# Altium schematic symbol library WR-LECO.SchLib: 17 symbols
Pins are listed as number, name and electrical type; pins without a type are passive.

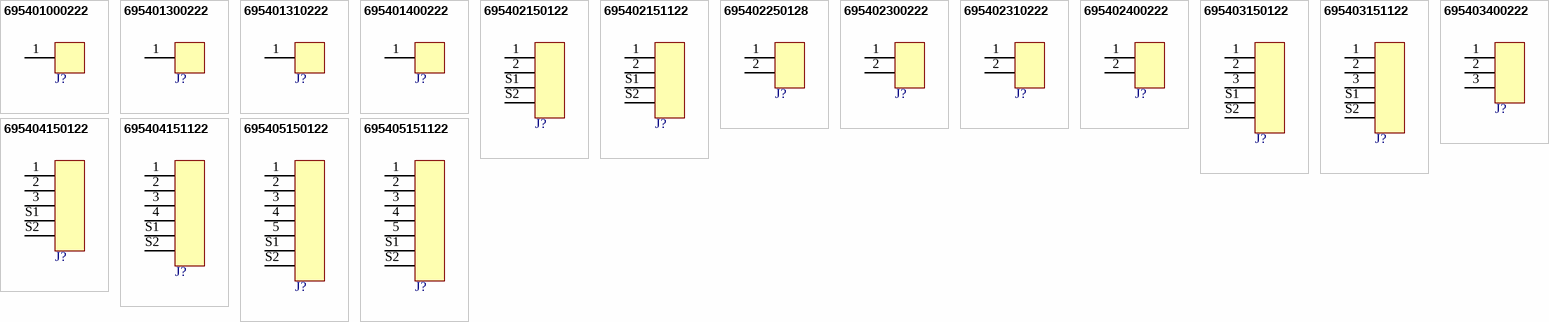
[diagram p0: symbols 695401000222 to 695405151122]

## 695401000222
designator J?  (value not drawn)
WR-LECO SMT LED Connector, Cable Entry, Vertical, 1p; Manufacturer: Wurth Elektronik; Rated Current: 7A; Solid Wire Section: 18 to 20 (AWG); Working Voltage: 600V (AC); Manufacturer Part Number: 695401000222; Category: LED Connectors; Match Code: WR-LECO; ComponentLink1Description: Website Link; ComponentLink1URL: https://www.we-online.com/redexpert/article/695401000222?ad; ComponentLink2Description: Datasheet Link; ComponentLink2URL: https://www.we-online.com/redexpert/spec/695401000222?ad; Mount: Surface Mount; Operating Temperature Max: 130°C; Operating Temperature Min: -40°C; Packaging: Tape and Reel; Gender: Cable Entry; Number of Pins: 1; Orientation: Vertical
footprint 695401000222
pins: 1

## 695401300222
designator J?  (value not drawn)
WR-LECO SMT LED Connector, Cable Entry, Angled, 1p; Manufacturer: Wurth Elektronik; Pitch: 4mm; Rated Current: 9A; Solid Wire Section: 20 to 18 (AWG); Working Voltage: 600V (AC); Manufacturer Part Number: 695401300222; Category: LED Connectors; Match Code: WR-LECO; ComponentLink1Description: Website Link; ComponentLink1URL: https://www.we-online.com/redexpert/article/695401300222?ad; ComponentLink2Description: Datasheet Link; ComponentLink2URL: https://www.we-online.com/redexpert/spec/695401300222?ad; Mount: Surface Mount; Operating Temperature Max: 105°C; Operating Temperature Min: -60°C; Packaging: Tape and Reel; Gender: Cable Entry; Number of Pins: 1; Orientation: Angled
footprint 695401300222
pins: 1

## 695401310222
designator J?  (value not drawn)
WR-LECO SMT LED Connector, Cable Entry, Angled, 1p; Manufacturer: Wurth Elektronik; Pitch: 4mm; Rated Current: 6A; Solid Wire Section: 24 to 22 (AWG); Working Voltage: 600V (AC); Manufacturer Part Number: 695401310222; Category: LED Connectors; Match Code: WR-LECO; ComponentLink1Description: Website Link; ComponentLink1URL: https://www.we-online.com/redexpert/article/695401310222?ad; ComponentLink2Description: Datasheet Link; ComponentLink2URL: https://www.we-online.com/redexpert/spec/695401310222?ad; Mount: Surface Mount; Operating Temperature Max: 105°C; Operating Temperature Min: -60°C; Packaging: Tape and Reel; Gender: Cable Entry; Number of Pins: 1; Orientation: Angled
footprint 695401310222
pins: 1

## 695401400222
designator J?  (value not drawn)
WR-LECO SMT LED Connector, Wire to Board, Angled, 1p; Manufacturer: Wurth Elektronik; Pitch: 4mm; Rated Current: 9A; Solid Wire Section: 18 to 24 (AWG); Working Voltage: 250V (AC); Manufacturer Part Number: 695401400222; Category: LED Connectors; Match Code: WR-LECO; ComponentLink1Description: Website Link; ComponentLink1URL: https://www.we-online.com/redexpert/article/695401400222?ad; ComponentLink2Description: Datasheet Link; ComponentLink2URL: https://www.we-online.com/redexpert/spec/695401400222?ad; Mount: Surface Mount; Operating Temperature Max: 105°C; Operating Temperature Min: -35°C; Packaging: Tape and Reel; Gender: Wire to Board; Number of Pins: 1; Orientation: Angled
footprint 695401400222
pins: 1

## 695402150122
designator J?  (value not drawn)
WR-LECO SMT LED Connector, Plug, Angled, 2p; Manufacturer: Wurth Elektronik; Pitch: 1.5mm; Rated Current: 1A; Working Voltage: 150V (AC); Manufacturer Part Number: 695402150122; Category: LED Connectors; Match Code: WR-LECO; ComponentLink1Description: Website Link; ComponentLink1URL: https://www.we-online.com/redexpert/article/695402150122?ad; ComponentLink2Description: Datasheet Link; ComponentLink2URL: https://www.we-online.com/redexpert/spec/695402150122?ad; Mount: Surface Mount; Operating Temperature Max: 85°C; Operating Temperature Min: -20°C; Packaging: Tape and Reel; Gender: Plug; Number of Pins: 2; Orientation: Angled
footprint 695402150122
pins: 1, 2, S1 Shell, S2 Shell

## 695402151122
designator J?  (value not drawn)
WR-LECO SMT LED Connector, Receptacle, Angled, 2p; Manufacturer: Wurth Elektronik; Pitch: 1.5mm; Rated Current: 1A; Working Voltage: 150V (AC); Manufacturer Part Number: 695402151122; Category: LED Connectors; Match Code: WR-LECO; ComponentLink1Description: Website Link; ComponentLink1URL: https://www.we-online.com/redexpert/article/695402151122?ad; ComponentLink2Description: Datasheet Link; ComponentLink2URL: https://www.we-online.com/redexpert/spec/695402151122?ad; Mount: Surface Mount; Operating Temperature Max: 85°C; Operating Temperature Min: -20°C; Packaging: Tape and Reel; Gender: Receptacle; Number of Pins: 2; Orientation: Angled
footprint 695402151122
pins: 1, 2, S1 Shell, S2 Shell

## 695402250128
designator J?  (value not drawn)
WR-LECO SMT LED Connector, Hermaphroditic, Angled, 2p; Manufacturer: Wurth Elektronik; Pitch: 2.54mm; Rated Current: 3A; Working Voltage: 300V (AC); Manufacturer Part Number: 695402250128; Category: LED Connectors; Match Code: WR-LECO; ComponentLink1Description: Website Link; ComponentLink1URL: https://www.we-online.com/redexpert/article/695402250128?ad; ComponentLink2Description: Datasheet Link; ComponentLink2URL: https://www.we-online.com/redexpert/spec/695402250128?ad; Mount: Surface Mount; Operating Temperature Max: 105°C; Operating Temperature Min: -40°C; Packaging: Tape and Reel; Gender: Hermaphroditic; Number of Pins: 2; Orientation: Angled
footprint 695402250128
pins: 1, 2

## 695402300222
designator J?  (value not drawn)
WR-LECO SMT LED Connector, Cable Entry, Angled, 2p; Manufacturer: Wurth Elektronik; Pitch: 4mm; Rated Current: 9A; Solid Wire Section: 20 to 18 (AWG); Working Voltage: 250V (AC); Manufacturer Part Number: 695402300222; Category: LED Connectors; Match Code: WR-LECO; ComponentLink1Description: Website Link; ComponentLink1URL: https://www.we-online.com/redexpert/article/695402300222?ad; ComponentLink2Description: Datasheet Link; ComponentLink2URL: https://www.we-online.com/redexpert/spec/695402300222?ad; Mount: Surface Mount; Operating Temperature Max: 105°C; Operating Temperature Min: -60°C; Packaging: Tape and Reel; Gender: Cable Entry; Number of Pins: 2; Orientation: Angled
footprint 695402300222
pins: 1, 2

## 695402310222
designator J?  (value not drawn)
WR-LECO SMT LED Connector, Cable Entry, Angled, 2p; Manufacturer: Wurth Elektronik; Pitch: 4mm; Rated Current: 6A; Solid Wire Section: 24 to 22 (AWG); Working Voltage: 250V (AC); Manufacturer Part Number: 695402310222; Category: LED Connectors; Match Code: WR-LECO; ComponentLink1Description: Website Link; ComponentLink1URL: https://www.we-online.com/redexpert/article/695402310222?ad; ComponentLink2Description: Datasheet Link; ComponentLink2URL: https://www.we-online.com/redexpert/spec/695402310222?ad; Mount: Surface Mount; Operating Temperature Max: 105°C; Operating Temperature Min: -60°C; Packaging: Tape and Reel; Gender: Cable Entry; Number of Pins: 2; Orientation: Angled
footprint 695402310222
pins: 1, 2

## 695402400222
designator J?  (value not drawn)
WR-LECO SMT LED Connector, Wire to Board, Angled, 2p; Manufacturer: Wurth Elektronik; Pitch: 4mm; Rated Current: 9A; Solid Wire Section: 18 to 24 (AWG); Working Voltage: 250V (AC); Manufacturer Part Number: 695402400222; Category: LED Connectors; Match Code: WR-LECO; ComponentLink1Description: Website Link; ComponentLink1URL: https://www.we-online.com/redexpert/article/695402400222?ad; ComponentLink2Description: Datasheet Link; ComponentLink2URL: https://www.we-online.com/redexpert/spec/695402400222?ad; Mount: Surface Mount; Operating Temperature Max: 105°C; Operating Temperature Min: -35°C; Packaging: Tape and Reel; Gender: Wire to Board; Number of Pins: 2; Orientation: Angled
footprint 695402400222
pins: 1, 2

## 695403150122
designator J?  (value not drawn)
WR-LECO SMT LED Connector, Plug, Angled, 3p; Manufacturer: Wurth Elektronik; Pitch: 1.5mm; Rated Current: 1A; Working Voltage: 150V (AC); Manufacturer Part Number: 695403150122; Category: LED Connectors; Match Code: WR-LECO; ComponentLink1Description: Website Link; ComponentLink1URL: https://www.we-online.com/redexpert/article/695403150122?ad; ComponentLink2Description: Datasheet Link; ComponentLink2URL: https://www.we-online.com/redexpert/spec/695403150122?ad; Mount: Surface Mount; Operating Temperature Max: 85°C; Operating Temperature Min: -20°C; Packaging: Tape and Reel; Gender: Plug; Number of Pins: 3; Orientation: Angled
footprint 695403150122
pins: 1, 2, 3, S1 Shell, S2 Shell

## 695403151122
designator J?  (value not drawn)
WR-LECO SMT LED Connector, Receptacle, Angled, 3p; Manufacturer: Wurth Elektronik; Pitch: 1.5mm; Rated Current: 1A; Working Voltage: 150V (AC); Manufacturer Part Number: 695403151122; Category: LED Connectors; Match Code: WR-LECO; ComponentLink1Description: Website Link; ComponentLink1URL: https://www.we-online.com/redexpert/article/695403151122?ad; ComponentLink2Description: Datasheet Link; ComponentLink2URL: https://www.we-online.com/redexpert/spec/695403151122?ad; Mount: Surface Mount; Operating Temperature Max: 85°C; Operating Temperature Min: -20°C; Packaging: Tape and Reel; Gender: Receptacle; Number of Pins: 3; Orientation: Angled
footprint 695403151122
pins: 1, 2, 3, S1 Shell, S2 Shell

## 695403400222
designator J?  (value not drawn)
WR-LECO SMT LED Connector, Wire to Board, Angled, 3p; Manufacturer: Wurth Elektronik; Pitch: 4mm; Rated Current: 9A; Solid Wire Section: 18 to 24 (AWG); Working Voltage: 250V (AC); Manufacturer Part Number: 695403400222; Category: LED Connectors; Match Code: WR-LECO; ComponentLink1Description: Website Link; ComponentLink1URL: https://www.we-online.com/redexpert/article/695403400222?ad; ComponentLink2Description: Datasheet Link; ComponentLink2URL: https://www.we-online.com/redexpert/spec/695403400222?ad; Mount: Surface Mount; Operating Temperature Max: 105°C; Operating Temperature Min: -35°C; Packaging: Tape and Reel; Gender: Wire to Board; Number of Pins: 3; Orientation: Angled
footprint 695403400222
pins: 1, 2, 3

## 695404150122
designator J?  (value not drawn)
WR-LECO SMT LED Connector, Plug, Angled, 4p; Manufacturer: Wurth Elektronik; Pitch: 1.5mm; Rated Current: 1A; Working Voltage: 150V (AC); Manufacturer Part Number: 695404150122; Category: LED Connectors; Match Code: WR-LECO; ComponentLink1Description: Website Link; ComponentLink1URL: https://www.we-online.com/redexpert/article/695404150122?ad; ComponentLink2Description: Datasheet Link; ComponentLink2URL: https://www.we-online.com/redexpert/spec/695404150122?ad; Mount: Surface Mount; Operating Temperature Max: 85°C; Operating Temperature Min: -20°C; Packaging: Tape and Reel; Gender: Plug; Number of Pins: 4; Orientation: Angled
footprint 695404150122
pins: 1, 2, 3, S1 Shell, S2 Shell

## 695404151122
designator J?  (value not drawn)
WR-LECO SMT LED Connector, Receptacle, Angled, 4p; Manufacturer: Wurth Elektronik; Pitch: 1.5mm; Rated Current: 1A; Working Voltage: 150V (AC); Manufacturer Part Number: 695404151122; Category: LED Connectors; Match Code: WR-LECO; ComponentLink1Description: Website Link; ComponentLink1URL: https://www.we-online.com/redexpert/article/695404151122?ad; ComponentLink2Description: Datasheet Link; ComponentLink2URL: https://www.we-online.com/redexpert/spec/695404151122?ad; Mount: Surface Mount; Operating Temperature Max: 85°C; Operating Temperature Min: -20°C; Packaging: Tape and Reel; Gender: Receptacle; Number of Pins: 4; Orientation: Angled
footprint 695404151122
pins: 1, 2, 3, 4, S1 Shell, S2 Shell

## 695405150122
designator J?  (value not drawn)
WR-LECO SMT LED Connector, Plug, Angled, 5p; Manufacturer: Wurth Elektronik; Pitch: 1.5mm; Rated Current: 1A; Working Voltage: 150V (AC); Manufacturer Part Number: 695405150122; Category: LED Connectors; Match Code: WR-LECO; ComponentLink1Description: Website Link; ComponentLink1URL: https://www.we-online.com/redexpert/article/695405150122?ad; ComponentLink2Description: Datasheet Link; ComponentLink2URL: https://www.we-online.com/redexpert/spec/695405150122?ad; Mount: Surface Mount; Operating Temperature Max: 85°C; Operating Temperature Min: -20°C; Packaging: Tape and Reel; Gender: Plug; Number of Pins: 5; Orientation: Angled
footprint 695405150122
pins: 1, 2, 3, 4, 5, S1 Shell, S2 Shell

## 695405151122
designator J?  (value not drawn)
WR-LECO SMT LED Connector, Receptacle, Angled, 5p; Manufacturer: Wurth Elektronik; Pitch: 1.5mm; Rated Current: 1A; Working Voltage: 150V (AC); Manufacturer Part Number: 695405151122; Category: LED Connectors; Match Code: WR-LECO; ComponentLink1Description: Website Link; ComponentLink1URL: https://www.we-online.com/redexpert/article/695405151122?ad; ComponentLink2Description: Datasheet Link; ComponentLink2URL: https://www.we-online.com/redexpert/spec/695405151122?ad; Mount: Surface Mount; Operating Temperature Max: 85°C; Operating Temperature Min: -20°C; Packaging: Tape and Reel; Gender: Receptacle; Number of Pins: 5; Orientation: Angled
footprint 695405151122
pins: 1, 2, 3, 4, 5, S1 Shell, S2 Shell